# EAGLE library part SWITCH-2CH-2.0-REINFORCE (library Discrete)
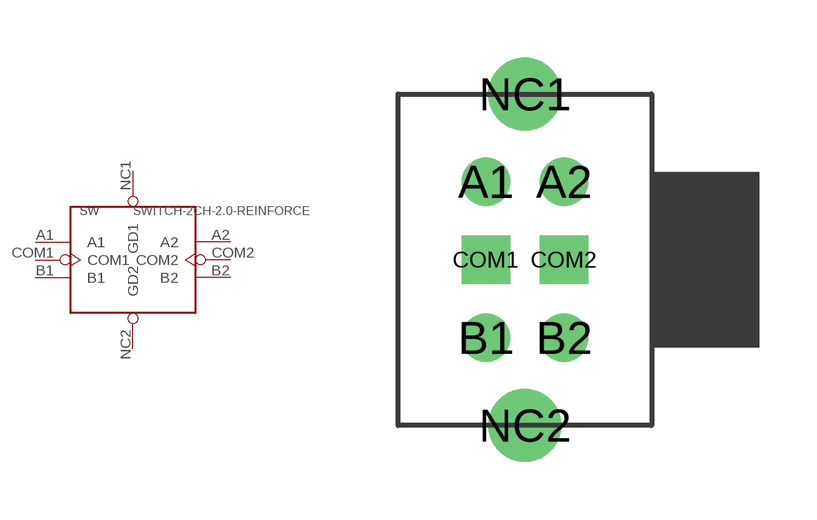
[diagram p6: symbol with the pads of 6P-2CH-2.0-6.6X8.6-90D-REINFORCE; footprint 6P-2CH-2.0-6.6X8.6-90D-REINFORCE]

Designator prefix SW

## SWITCH-2CH-2.0-REINFORCE  [6P-2CH-2.0-6.6X8.6-90D-REINFORCE]
A1  A1
A2  A2
B1  B1
B2  B2
COM1  COM1
COM2  COM2
NC1  GD1
NC2  GD2

## Footprint 6P-2CH-2.0-6.6X8.6-90D-REINFORCE (pad centres in mm)
drill 0.635 pad 1.27 round: A1 -1.016,2.032; A2 1.016,2.032; B1 -1.016,-2.032; B2 1.016,-2.032
drill 0.635 pad 1.27 square: COM1 -1.016,0; COM2 1.016,0
drill 1.27 round: NC1 0,4.318; NC2 0,-4.318